# EAGLE library part MAX7491_FILTER (library Tristan+Robitaille_s+Library)
Maxim MAX7490/MAX7491 Dual Universal Switched-Capacitor Filter Bandpass, lowpass, highpass and notch filter Technical Specifications: Center frequency range: 0.001kHz to 40kHz Maximum clock frequency: 4MHz Supply voltage: 4.5V to 5.5V (MAX7490), 2.7V to 3.6V (MAX7491) Current draw: 3.5mA Shutdown current draw: 1μA Datasheet <http://datasheets.maximintegrated.com/en/ds/MAX7490-MAX7491.pdf> Digi-Key part #: MAX7491CEE+-ND <http://www.digikey.ca/product-detail/en/maxim-integrated/MAX7491CEE-/MAX7491CEE--ND/1513211> and MAX7490EEE+-ND <http://www.digikey.ca/product-detail/en/maxim-integrated/MAX7490EEE-/MAX7490EEE--ND/1513196> Mouser part #: 700-MAX7491EEE <http://www.mouser.com/ProductDetail/Maxim-Integrated/MAX7491EEE+/?qs=sGAEpiMZZMu%252bahkv8RvG%2fd49%252boOtFODkLAIsDbWqYxY%3d> and 700-MAX7490EEE <http://www.mouser.com/ProductDetail/Maxim-Integrated/MAX7490EEE+/?qs=sGAEpiMZZMu%252bahkv8RvG%2fd49%252boOtFODkpwbQcth8Ezs%3d> Manufacturer part #: MAX7491CEE+ and MAX7490CEE+
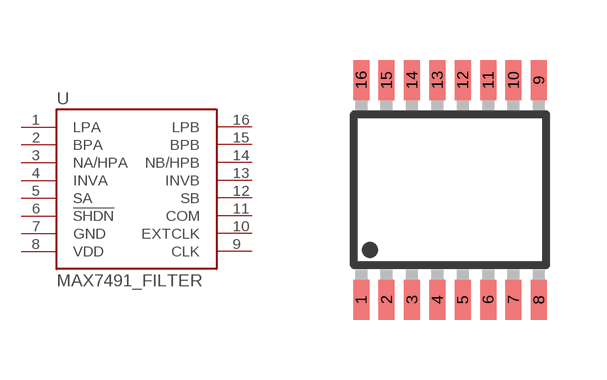
[diagram p4: symbol with the pads of QSOP16; footprint QSOP16]

Designator prefix U

## MAX7491_FILTER (MANF: Dual Universal Switched-Capacitor Filters)  [QSOP16]
1  LPA  out
2  BPA  out
3  NA/HPA  out
4  INVA  in
5  SA  in
6  !SHDN  in
7  GND  pwr
8  VDD  pwr
9  CLK  in
10  EXTCLK  in
11  COM
12  SB  in
13  INVB  in
14  NB/HPB  out
15  BPB  out
16  LPB  out

## Footprint QSOP16 (pad centres in mm)
Small Outline Package
smd 0.4 x 1: 1 -2.223,-2.75; 2 -1.588,-2.75; 3 -0.953,-2.75; 4 -0.318,-2.75; 5 0.318,-2.75; 6 0.953,-2.75; 7 1.588,-2.75; 8 2.223,-2.75; 9 2.223,2.75; 10 1.588,2.75; 11 0.953,2.75; 12 0.318,2.75; 13 -0.318,2.75; 14 -0.953,2.75; 15 -1.588,2.75; 16 -2.223,2.75